# Altium footprint library urover.PCBLIB: 175 footprints (part 11 of 11)
Each footprint in its own frame and in the unit in brackets; x right, y up, seen from the top. Pads: shape width x height; smd on the part's side, far side on the other; paste and mask are expansions set on the pad; w line width, h text height; cw(c..) or ccw(c..) is an arc to the next point about the centre after c.
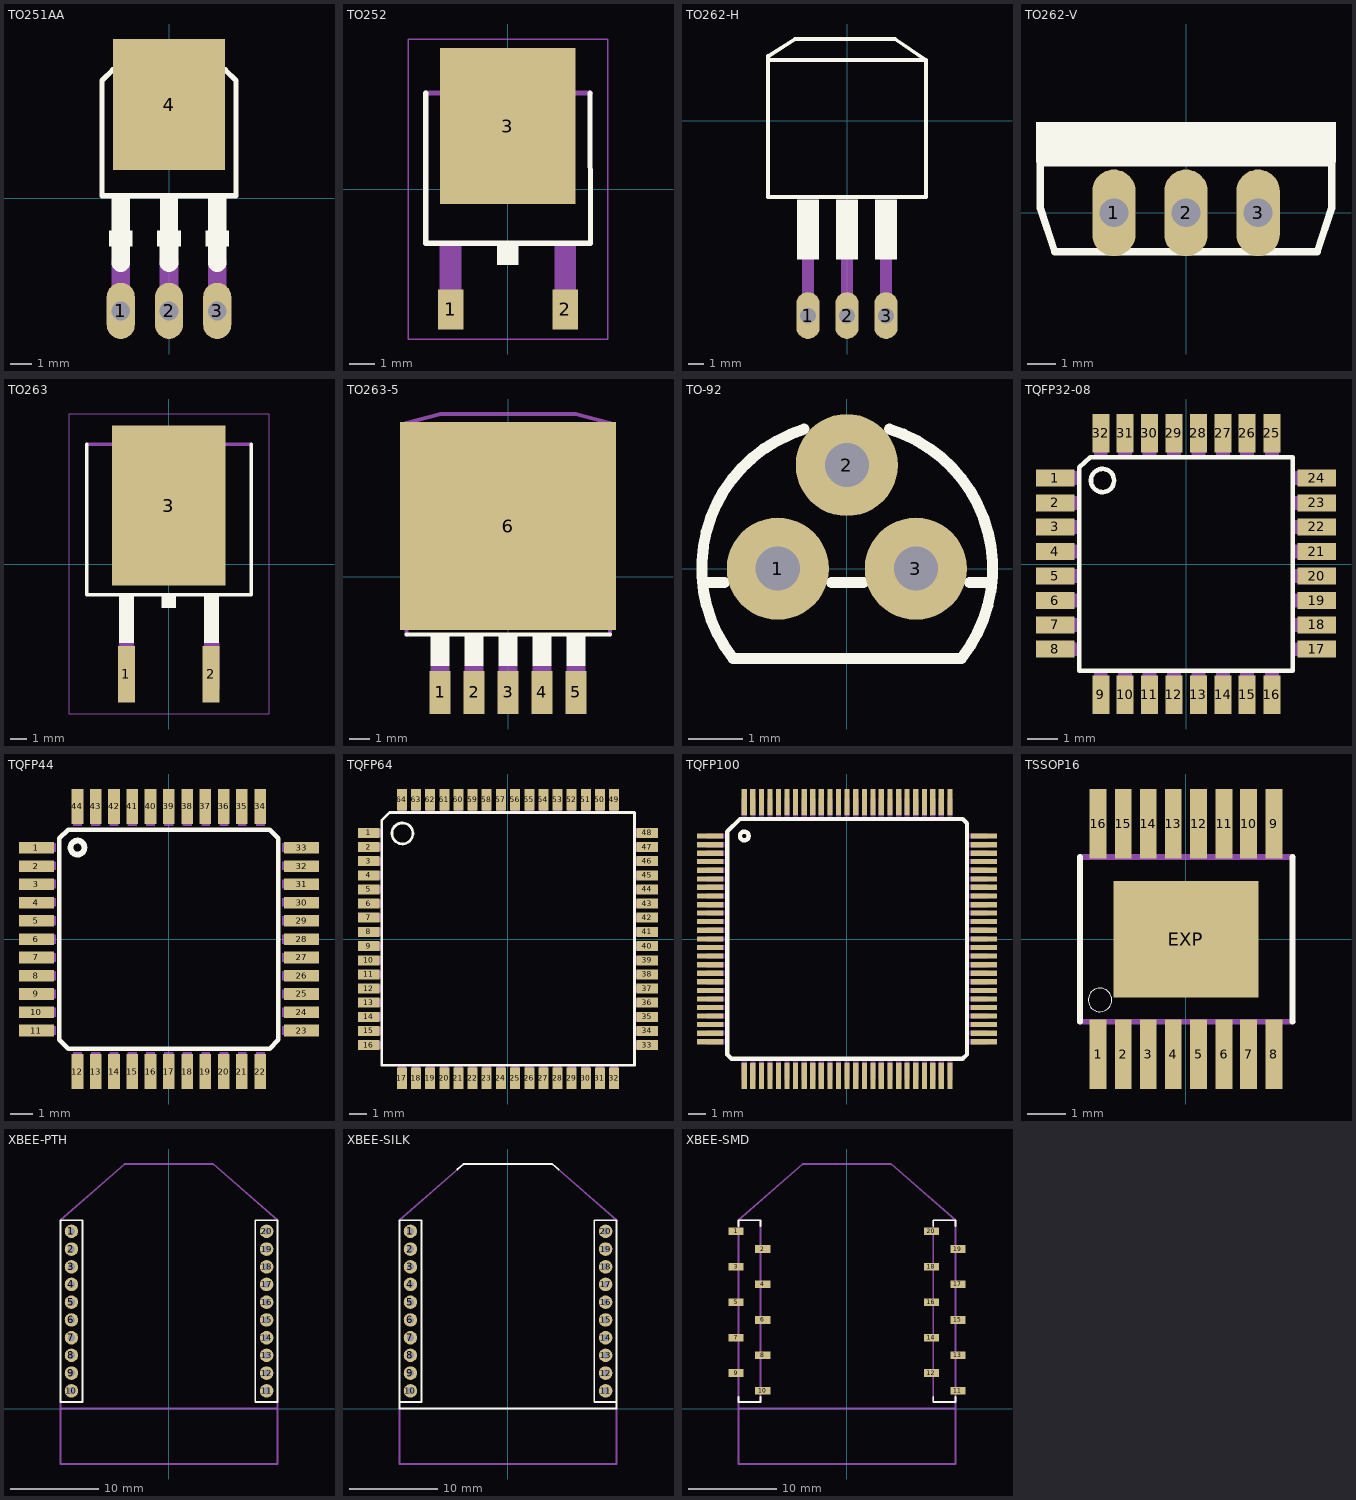
[diagram p10: the footprints below, top view; thin cyan lines are the x and y axes]

## TO251AA [mil]
pads (4):
  oval 52.5x105 hole 35: 1(-90,-210) 2(0,-210) 3(90,-210)
  rect 210x245 smd: 4(0,175)
Top Overlay:
  rectangle: -22,-90 22,-60
  rectangle: -17,-60 17,0
  rectangle: -112,-90 -68,-60
  rectangle: 68,-90 112,-60
  rectangle: -107,-60 -73,0
  rectangle: 73,-60 107,0
  lines w10: -100,240 100,240 ; -100,240 -105,240 -125,220 -125,5 125,5 125,220 105,240 100,240 ; -100,240 -100,270 -65,290 65,290 100,270 100,240
  lines w35: -90,-120 -90,-90 ; 0,-120 0,-90 ; 90,-120 90,-90
Mechanical 16:
  lines w35: -90,-210 -90,-120 ; 0,-210 0,-120 ; 90,-210 90,-120

## TO252 [mil]
pads (3):
  rect 40x63 smd: 1(-89.76,-188.98) 2(90,-188.98)
  rect 213x245 smd: 3(0,99)
Top Overlay:
  rectangle: -17,-119 17,-89
  lines w8: -129,151 -129.02,-85 130,-85 129,151
Mechanical 16:
  rectangle: -107,-203 -73,-89
  rectangle: 73,-203 107,-89
  region: 0,0 10,0 10,10 0,10
  lines w8: -129.02,151 130,151 ; -101,155 -101,183 -83,201 83,201 101,183 101,155 -101,155
Mechanical 27:
  lines w2: -156.42,-235.55 157,-235.55 157,236 -156.42,236 -156.42,-235.55

## TO262-H [mil]
pads (3):
  oval 60x120 hole 40: 1(-100,-500) 2(0,-500) 3(100,-500)
Top Overlay:
  rectangle: -128,-356 -72,-300
  rectangle: -128,-300 -72,-202
  rectangle: 72,-300 128,-202
  rectangle: -28,-300 28,-202
  rectangle: -28,-356 28,-300
  rectangle: 72,-356 128,-300
  lines w10: -202,155 -202,165 -133,209 123,209 202,155 ; -202,155 -202,-196 202,-196 202,155 ; -202,155 202,155
Mechanical 16:
  rectangle: -115,-510 -85,-355
  rectangle: -15,-510 15,-355
  rectangle: 85,-510 115,-355

## TO262-V [mil]
pads (3):
  oval 60x120 hole 40: 1(-100,0) 2(0,0) 3(100,0)
Top Overlay:
  rectangle: -208,70 208,126
  lines w10: -202,6 -202,69 202,69 202,6 182,-54 -182,-54 -202,6

## TO263 [mil]
pads (3):
  rect 40x134 smd: 1(-100,-259.84) 2(100,-259.84)
  rect 268x378 smd: 3(0,138)
Top Overlay:
  rectangle: -17,-104.04 17,-74.04
  rectangle: -117.72,-186.61 -82.28,-76.38
  rectangle: 83,-186.61 118,-76.38
  lines w8: -193.58,283 -193.58,-72.4 194,-72.4 194,283
Mechanical 16:
  rectangle: -118.11,-295.28 -82.68,-185.04
  rectangle: 83,-295.28 119,-185.04
  region: 0,0 10,0 10,10 0,10
  lines w8: -193.58,283 194,283 ; -100.98,287 -100.98,303 -82.99,321 83,321 101,303 101,287 -100.98,287
Mechanical 27:
  lines w2: -235.16,-353.66 236,-353.66 236,354 -235.16,354 -235.16,-353.66

## TO263-5 [mil]
pads (6):
  rect 42x85 smd: 1(-134,-228) 2(-67,-228) 3(0,-228) 4(67,-228) 5(134,-228)
  rect 426x410 smd: 6(0,100)
Top Overlay:
  rectangle: -153,-176 -115,-110
  rectangle: -86,-176 -48,-110
  rectangle: -19,-176 19,-110
  rectangle: 48,-176 86,-110
  rectangle: 115,-176 153,-110
  lines w8: -200.55,-113.39 201,-113.39
Mechanical 16:
  rectangle: -153,-260 -115,-175
  rectangle: -86,-260 -48,-175
  rectangle: -19,-260 19,-175
  rectangle: 48,-260 86,-175
  rectangle: 115,-260 153,-175
  region: 0,0 10,0 10,10 0,10
  lines w8: -200.55,-113.39 -200.55,283 201,283 201,-113.39 ; -200.98,287 -200.98,303 -132.99,321 133,321 201,303 201,287 -200.98,287

## TO-92 [mil]
pads (3):
  round 74 hole 32: 1(-50,0) 2(0,75) 3(50,0)
Top Overlay:
  lines w8: -104.52,-10 -88.73,-10 ; -30.96,101 ccw(c0.23,0.33) -82.46,-65 83,-65 ccw(c0.06,0.16) 31,101 ; -11.27,-10 12,-10 ; 89,-10 105,-10

## TQFP32-08 [mil]
pads (32):
  rect 50x22 smd: 1(-169,111) 2(-169,79) 3(-169,48) 4(-169,16) 5(-169,-15.75) 6(-169,-47.24) 7(-169,-78.74) 8(-169,-110.24) 17(169,-110.24) 18(169,-78.74) 19(169,-47.24) 20(169,-15.75) 21(169,16) 22(169,48) 23(169,79) 24(169,111)
  rect 22x50 smd: 9(-110.24,-169) 10(-78.74,-169) 11(-47.24,-169) 12(-15.75,-169) 13(16,-169) 14(48,-169) 15(79,-169) 16(111,-169) 25(111,169) 26(79,169) 27(48,169) 28(16,169) 29(-15.75,169) 30(-47.24,169) 31(-78.74,169) 32(-110.24,169)
Top Overlay:
  circle w6: c-108,108 r15
  lines w6: -137.99,-137.99 138,-137.99 138,138 -124.02,138 -137.99,125 -137.99,-137.99
Mechanical 16:
  rectangle: -179,102 -140,120
  rectangle: -179,70 -140,88
  rectangle: -179,39 -140,57
  rectangle: -179,7 -140,25
  rectangle: -179,-24.75 -140,-6.75
  rectangle: -179,-56.24 -140,-38.24
  rectangle: -179,-87.74 -140,-69.74
  rectangle: -179,-119.24 -140,-101.24
  rectangle: -119.24,-179 -101.24,-140
  rectangle: -87.74,-179 -69.74,-140
  rectangle: -56.24,-179 -38.24,-140
  rectangle: -24.75,-179 -6.75,-140
  rectangle: 7,-179 25,-140
  rectangle: 39,-179 57,-140
  rectangle: 70,-179 88,-140
  rectangle: 102,-179 120,-140
  rectangle: 140,-119.24 179,-101.24
  rectangle: 140,-87.74 179,-69.74
  rectangle: 140,-56.24 179,-38.24
  rectangle: 140,-24.75 179,-6.75
  rectangle: 140,7 179,25
  rectangle: 140,39 179,57
  rectangle: 140,70 179,88
  rectangle: 140,102 179,120
  rectangle: 102,140 120,179
  rectangle: 70,140 88,179
  rectangle: 39,140 57,179
  rectangle: 7,140 25,179
  rectangle: -24.75,140 -6.75,179
  rectangle: -56.24,140 -38.24,179
  rectangle: -87.74,140 -69.74,179
  rectangle: -119.24,140 -101.24,179

## TQFP44 [mil]
pads (44):
  rect 60x20 smd: 1(-228.35,158) 2(-228.35,126) 3(-228.35,95) 4(-228.35,63) 5(-228.35,32) 6(-228.35,0) 7(-228.35,-31.5) 8(-228.35,-62.99) 9(-228.35,-94.49) 10(-228.35,-125.98) 11(-228.35,-157.48) 23(229,-157.48) 24(229,-125.98) 25(229,-94.49) 26(229,-62.99) 27(229,-31.5) 28(229,0) 29(229,32) 30(229,63) 31(229,95) 32(229,126) 33(229,158)
  rect 20x60 smd: 12(-157.48,-228.35) 13(-125.98,-228.35) 14(-94.49,-228.35) 15(-62.99,-228.35) 16(-31.5,-228.35) 17(0,-228.35) 18(32,-228.35) 19(63,-228.35) 20(95,-228.35) 21(126,-228.35) 22(158,-228.35) 34(158,229) 35(126,229) 36(95,229) 37(63,229) 38(32,229) 39(0,229) 40(-31.5,229) 41(-62.99,229) 42(-94.49,229) 43(-125.98,229) 44(-157.48,229)
Top Overlay:
  circle w10: c-157.48,158 r12
  lines w8: -188.98,-173.23 -173.23,-188.98 174,-188.98 189,-173.23 189,174 174,189 -173.23,189 -188.98,174 -188.98,-173.23
Mechanical 16:
  rectangle: -240.16,150 -194.88,166
  rectangle: -240.16,119 -194.88,134
  rectangle: -240.16,87 -194.88,103
  rectangle: -240.16,56 -194.88,71
  rectangle: -240.16,24 -194.88,40
  rectangle: -240.16,-7.87 -194.88,8
  rectangle: -240.16,-39.37 -194.88,-23.62
  rectangle: -240.16,-70.87 -194.88,-55.12
  rectangle: -240.16,-102.36 -194.88,-86.61
  rectangle: -240.16,-133.86 -194.88,-118.11
  rectangle: -240.16,-165.35 -194.88,-149.61
  rectangle: -165.35,-240.16 -149.61,-194.88
  rectangle: -133.86,-240.16 -118.11,-194.88
  rectangle: -102.36,-240.16 -86.61,-194.88
  rectangle: -70.87,-240.16 -55.12,-194.88
  rectangle: -39.37,-240.16 -23.62,-194.88
  rectangle: -7.87,-240.16 8,-194.88
  rectangle: 24,-240.16 40,-194.88
  rectangle: 56,-240.16 71,-194.88
  rectangle: 87,-240.16 103,-194.88
  rectangle: 119,-240.16 134,-194.88
  rectangle: 150,-240.16 166,-194.88
  rectangle: 195,-165.35 241,-149.61
  rectangle: 195,-133.86 241,-118.11
  rectangle: 195,-102.36 241,-86.61
  rectangle: 195,-70.87 241,-55.12
  rectangle: 195,-39.37 241,-23.62
  rectangle: 195,-7.87 241,8
  rectangle: 195,24 241,40
  rectangle: 195,56 241,71
  rectangle: 195,87 241,103
  rectangle: 195,119 241,134
  rectangle: 195,150 241,166
  rectangle: 150,195 166,241
  rectangle: 119,195 134,241
  rectangle: 87,195 103,241
  rectangle: 56,195 71,241
  rectangle: 24,195 40,241
  rectangle: -7.87,195 8,241
  rectangle: -39.37,195 -23.62,241
  rectangle: -70.87,195 -55.12,241
  rectangle: -102.36,195 -86.61,241
  rectangle: -133.86,195 -118.11,241
  rectangle: -165.35,195 -149.61,241

## TQFP64 [mil]
pads (64):
  rect 47x22 smd: 1(-305.5,233) 2(-305.5,202) 3(-305.5,171) 4(-305.5,140) 5(-305.5,109) 6(-305.5,78) 7(-305.5,47) 8(-305.5,16) 9(-305.5,-15.5) 10(-305.5,-46.5) 11(-305.5,-77.5) 12(-305.5,-108.5) 13(-305.5,-139.5) 14(-305.5,-170.5) 15(-305.5,-201.5) 16(-305.5,-232.5) 33(306,-232.5) 34(306,-201.5) 35(306,-170.5) 36(306,-139.5) 37(306,-108.5) 38(306,-77.5) 39(306,-46.5) 40(306,-15.5) 41(306,16) 42(306,47) 43(306,78) 44(306,109) 45(306,140) 46(306,171) 47(306,202) 48(306,233)
  rect 22x47 smd: 17(-232.5,-305.5) 18(-201.5,-305.5) 19(-170.5,-305.5) 20(-139.5,-305.5) 21(-108.5,-305.5) 22(-77.5,-305.5) 23(-46.5,-305.5) 24(-15.5,-305.5) 25(16,-305.5) 26(47,-305.5) 27(78,-305.5) 28(109,-305.5) 29(140,-305.5) 30(171,-305.5) 31(202,-305.5) 32(233,-305.5) 49(233,306) 50(202,306) 51(171,306) 52(140,306) 53(109,306) 54(78,306) 55(47,306) 56(16,306) 57(-15.5,306) 58(-46.5,306) 59(-77.5,306) 60(-108.5,306) 61(-139.5,306) 62(-170.5,306) 63(-201.5,306) 64(-232.5,306)
Top Overlay:
  circle w6: c-231.5,232 r23
  lines w6: -277.01,-277.01 278,-277.01 278,278 -260,278 -277.01,260 -277.01,-277.01
Mechanical 16:
  rectangle: 279,7 322,25
  rectangle: 279,38 322,56
  rectangle: 279,69 322,87
  rectangle: 279,100 322,118
  rectangle: 279,131 322,149
  rectangle: 279,162 322,180
  rectangle: 279,193 322,211
  rectangle: 279,224 322,242
  rectangle: 279,-24.5 322,-6.5
  rectangle: 279,-55.5 322,-37.5
  rectangle: 279,-86.5 322,-68.5
  rectangle: 279,-117.5 322,-99.5
  rectangle: 279,-148.5 322,-130.5
  rectangle: 279,-179.5 322,-161.5
  rectangle: 279,-210.5 322,-192.5
  rectangle: 279,-241.5 322,-223.5
  rectangle: 7,-322 25,-279
  rectangle: 38,-322 56,-279
  rectangle: 69,-322 87,-279
  rectangle: 100,-322 118,-279
  rectangle: 131,-322 149,-279
  rectangle: 162,-322 180,-279
  rectangle: 193,-322 211,-279
  rectangle: 224,-322 242,-279
  rectangle: -24.5,-322 -6.5,-279
  rectangle: -55.5,-322 -37.5,-279
  rectangle: -86.5,-322 -68.5,-279
  rectangle: -117.5,-322 -99.5,-279
  rectangle: -148.5,-322 -130.5,-279
  rectangle: -179.5,-322 -161.5,-279
  rectangle: -210.5,-322 -192.5,-279
  rectangle: -241.5,-322 -223.5,-279
  rectangle: -322,-24.5 -279,-6.5
  rectangle: -322,-55.5 -279,-37.5
  rectangle: -322,-86.5 -279,-68.5
  rectangle: -322,-117.5 -279,-99.5
  rectangle: -322,-148.5 -279,-130.5
  rectangle: -322,-179.5 -279,-161.5
  rectangle: -322,-210.5 -279,-192.5
  rectangle: -322,-241.5 -279,-223.5
  rectangle: -322,7 -279,25
  rectangle: -322,38 -279,56
  rectangle: -322,69 -279,87
  rectangle: -322,100 -279,118
  rectangle: -322,131 -279,149
  rectangle: -322,162 -279,180
  rectangle: -322,193 -279,211
  rectangle: -322,224 -279,242
  rectangle: -24.5,279 -6.5,322
  rectangle: -55.5,279 -37.5,322
  rectangle: -86.5,279 -68.5,322
  rectangle: -117.5,279 -99.5,322
  rectangle: -148.5,279 -130.5,322
  rectangle: -179.5,279 -161.5,322
  rectangle: -210.5,279 -192.5,322
  rectangle: -241.5,279 -223.5,322
  rectangle: 7,279 25,322
  rectangle: 38,279 56,322
  rectangle: 69,279 87,322
  rectangle: 100,279 118,322
  rectangle: 131,279 149,322
  rectangle: 162,279 180,322
  rectangle: 193,279 211,322
  rectangle: 224,279 242,322

## TQFP100 [mil]
pads (100):
  rect 60x12 smd: 1(-314.96,237) 2(-314.96,217) 3(-314.96,197) 4(-314.96,178) 5(-314.96,158) 6(-314.96,138) 7(-314.96,119) 8(-314.96,99) 9(-314.96,79) 10(-314.96,60) 11(-314.96,40) 12(-314.96,20) 13(-314.96,0) 14(-314.96,-19.68) 15(-314.96,-39.37) 16(-314.96,-59.06) 17(-314.96,-78.74) 18(-314.96,-98.43) 19(-314.96,-118.11) 20(-314.96,-137.8) 21(-314.96,-157.48) 22(-314.96,-177.17) 23(-314.96,-196.85) 24(-314.96,-216.54) 25(-314.96,-236.22) 51(315,-236.22) 52(315,-216.54) 53(315,-196.85) 54(315,-177.17) 55(315,-157.48) 56(315,-137.8) 57(315,-118.11) 58(315,-98.43) 59(315,-78.74) 60(315,-59.06) 61(315,-39.37) 62(315,-19.68) 63(315,0) 64(315,20) 65(315,40) 66(315,60) 67(315,79) 68(315,99) 69(315,119) 70(315,138) 71(315,158) 72(315,178) 73(315,197) 74(315,217) 75(315,237)
  rect 12x60 smd: 26(-236.22,-314.96) 27(-216.54,-314.96) 28(-196.85,-314.96) 29(-177.17,-314.96) 30(-157.48,-314.96) 31(-137.8,-314.96) 32(-118.11,-314.96) 33(-98.43,-314.96) 34(-78.74,-314.96) 35(-59.06,-314.96) 36(-39.37,-314.96) 37(-19.68,-314.96) 38(0,-314.96) 39(20,-314.96) 40(40,-314.96) 41(60,-314.96) 42(79,-314.96) 43(99,-314.96) 44(119,-314.96) 45(138,-314.96) 46(158,-314.96) 47(178,-314.96) 48(197,-314.96) 49(217,-314.96) 50(237,-314.96) 76(237,315) 77(217,315) 78(197,315) 79(178,315) 80(158,315) 81(138,315) 82(119,315) 83(99,315) 84(79,315) 85(60,315) 86(40,315) 87(20,315) 88(0,315) 89(-19.68,315) 90(-39.37,315) 91(-59.06,315) 92(-78.74,315) 93(-98.43,315) 94(-118.11,315) 95(-137.8,315) 96(-157.48,315) 97(-177.17,315) 98(-196.85,315) 99(-216.54,315) 100(-236.22,315)
Top Overlay:
  circle w10: c-236.22,237 r10
  lines w10: -275.59,-265.75 -265.75,-275.59 266,-275.59 276,-265.75 276,266 266,276 -246.06,276 -275.59,247 -275.59,-265.75
Mechanical 16:
  rectangle: -322.83,231 -281.5,243
  rectangle: -322.83,211 -281.5,223
  rectangle: -322.83,191 -281.5,203
  rectangle: -322.83,172 -281.5,184
  rectangle: -322.83,152 -281.5,164
  rectangle: -322.83,132 -281.5,144
  rectangle: -322.83,113 -281.5,125
  rectangle: -322.83,93 -281.5,105
  rectangle: -322.83,73 -281.5,85
  rectangle: -322.83,54 -281.5,65
  rectangle: -322.83,34 -281.5,46
  rectangle: -322.83,14 -281.5,26
  rectangle: -322.83,-5.91 -281.5,6
  rectangle: -322.83,-25.59 -281.5,-13.78
  rectangle: -322.83,-45.28 -281.5,-33.46
  rectangle: -322.83,-64.96 -281.5,-53.15
  rectangle: -322.83,-84.65 -281.5,-72.83
  rectangle: -322.83,-104.33 -281.5,-92.52
  rectangle: -322.83,-124.02 -281.5,-112.2
  rectangle: -322.83,-143.7 -281.5,-131.89
  rectangle: -322.83,-163.39 -281.5,-151.57
  rectangle: -322.83,-183.07 -281.5,-171.26
  rectangle: -322.83,-202.76 -281.5,-190.94
  rectangle: -322.83,-222.44 -281.5,-210.63
  rectangle: -322.83,-242.13 -281.5,-230.31
  rectangle: -242.13,-322.83 -230.31,-281.5
  rectangle: -222.44,-322.83 -210.63,-281.5
  rectangle: -202.76,-322.83 -190.94,-281.5
  rectangle: -183.07,-322.83 -171.26,-281.5
  rectangle: -163.39,-322.83 -151.57,-281.5
  rectangle: -143.7,-322.83 -131.89,-281.5
  rectangle: -124.02,-322.83 -112.2,-281.5
  rectangle: -104.33,-322.83 -92.52,-281.5
  rectangle: -84.65,-322.83 -72.83,-281.5
  rectangle: -64.96,-322.83 -53.15,-281.5
  rectangle: -45.28,-322.83 -33.46,-281.5
  rectangle: -25.59,-322.83 -13.78,-281.5
  rectangle: -5.91,-322.83 6,-281.5
  rectangle: 14,-322.83 26,-281.5
  rectangle: 34,-322.83 46,-281.5
  rectangle: 54,-322.83 65,-281.5
  rectangle: 73,-322.83 85,-281.5
  rectangle: 93,-322.83 105,-281.5
  rectangle: 113,-322.83 125,-281.5
  rectangle: 132,-322.83 144,-281.5
  rectangle: 152,-322.83 164,-281.5
  rectangle: 172,-322.83 184,-281.5
  rectangle: 191,-322.83 203,-281.5
  rectangle: 211,-322.83 223,-281.5
  rectangle: 231,-322.83 243,-281.5
  rectangle: 282,-242.13 323,-230.31
  rectangle: 282,-222.44 323,-210.63
  rectangle: 282,-202.76 323,-190.94
  rectangle: 282,-183.07 323,-171.26
  rectangle: 282,-163.39 323,-151.57
  rectangle: 282,-143.7 323,-131.89
  rectangle: 282,-124.02 323,-112.2
  rectangle: 282,-104.33 323,-92.52
  rectangle: 282,-84.65 323,-72.83
  rectangle: 282,-64.96 323,-53.15
  rectangle: 282,-45.28 323,-33.46
  rectangle: 282,-25.59 323,-13.78
  rectangle: 282,-5.91 323,6
  rectangle: 282,14 323,26
  rectangle: 282,34 323,46
  rectangle: 282,54 323,65
  rectangle: 282,73 323,85
  rectangle: 282,93 323,105
  rectangle: 282,113 323,125
  rectangle: 282,132 323,144
  rectangle: 282,152 323,164
  rectangle: 282,172 323,184
  rectangle: 282,191 323,203
  rectangle: 282,211 323,223
  rectangle: 282,231 323,243
  rectangle: 231,282 243,323
  rectangle: 211,282 223,323
  rectangle: 191,282 203,323
  rectangle: 172,282 184,323
  rectangle: 152,282 164,323
  rectangle: 132,282 144,323
  rectangle: 113,282 125,323
  rectangle: 93,282 105,323
  rectangle: 73,282 85,323
  rectangle: 54,282 65,323
  rectangle: 34,282 46,323
  rectangle: 14,282 26,323
  rectangle: -5.91,282 6,323
  rectangle: -25.59,282 -13.78,323
  rectangle: -45.28,282 -33.46,323
  rectangle: -64.96,282 -53.15,323
  rectangle: -84.65,282 -72.83,323
  rectangle: -104.33,282 -92.52,323
  rectangle: -124.02,282 -112.2,323
  rectangle: -143.7,282 -131.89,323
  rectangle: -163.39,282 -151.57,323
  rectangle: -183.07,282 -171.26,323
  rectangle: -202.76,282 -190.94,323
  rectangle: -222.44,282 -210.63,323
  rectangle: -242.13,282 -230.31,323

## TSSOP16 [mil]
pads (17):
  rect 17x71 smd: 1(-89.57,-117.13) 2(-63.98,-117.13) 3(-38.39,-117.13) 4(-12.8,-117.13) 5(13,-117.13) 6(39,-117.13) 7(64,-117.13) 8(90,-117.13) 9(90,118) 10(64,118) 11(39,118) 12(13,118) 13(-12.8,118) 14(-38.39,118) 15(-63.98,118) 16(-89.57,118)
  rect 148x119 smd: EXP(0,0)
Top Overlay:
  circle w0: c-87.62,-61.78 r12
  lines w6: -107.86,-83.97 -107.86,84 ; 109,-83.97 109,84
Mechanical 16:
  rectangle: -95.47,-125.98 -83.66,-82
  rectangle: -69.88,-125.98 -58.07,-82
  rectangle: -44.29,-125.98 -32.48,-82
  rectangle: -18.7,-125.98 -6.89,-82
  rectangle: 7,-125.98 19,-82
  rectangle: 33,-125.98 45,-82
  rectangle: 59,-125.98 70,-82
  region: 70,126 59,126 59,82 70,82
  region: 45,126 33,126 33,82 45,82
  region: 19,126 7,126 7,82 19,82
  region: -6.89,126 -18.7,126 -18.7,82 -6.89,82
  region: -32.48,126 -44.29,126 -44.29,82 -32.48,82
  region: -58.07,126 -69.88,126 -69.88,82 -58.07,82
  region: -83.66,126 -95.47,126 -95.47,82 -83.66,82
  region: 96,126 84,126 84,82 96,82
  rectangle: 84,-125.98 96,-82
  lines w6: -107.86,-83.97 109,-83.97 ; -107.86,84 109,84

## XBEE-PTH [mil]
pads (20):
  round 60 hole 32: 1(-433.07,788) 2(-433.07,709) 3(-433.07,630) 4(-433.07,552) 5(-433.07,473) 6(-433.07,394) 7(-433.07,315) 8(-433.07,237) 9(-433.07,158) 10(-433.07,79) 11(434,79) 12(434,158) 13(434,237) 14(434,315) 15(434,394) 16(434,473) 17(434,552) 18(434,630) 19(434,709) 20(434,788)
Top Overlay:
  lines w8: -482.28,30 -482.28,837 -383.86,837 -383.86,30 -482.28,30 ; 384,30 483,30 483,837 384,837 384,30
Mechanical 16:
  lines w8: -482.28,30 -482.28,0 ; -482.28,837 -196.85,1087 197,1087 483,837 ; 483,30 483,0 ; -482.28,0 483,0 ; -482.28,0 -482.28,-246.06 483,-246.06 483,0

## XBEE-SILK [mil]
pads (20):
  round 60 hole 32: 1(-433.07,788) 2(-433.07,709) 3(-433.07,630) 4(-433.07,552) 5(-433.07,473) 6(-433.07,394) 7(-433.07,315) 8(-433.07,237) 9(-433.07,158) 10(-433.07,79) 11(434,79) 12(434,158) 13(434,237) 14(434,315) 15(434,394) 16(434,473) 17(434,552) 18(434,630) 19(434,709) 20(434,788)
Top Overlay:
  lines w8: -224.41,1063 -196.85,1087 197,1087 225,1063 ; -482.28,30 -482.28,837 -383.86,837 -383.86,30 -482.28,30 ; -482.28,30 -482.28,0 483,0 483,30 ; 483,30 483,837 384,837 384,30 483,30
Mechanical 16:
  lines w8: -482.28,0 -482.28,-246.06 483,-246.06 483,0 ; -482.28,837 -196.85,1087 197,1087 483,837

## XBEE-SMD [mil]
pads (20):
  rect 67x34 smd: 1(-492.13,788) 2(-374.02,709) 3(-492.13,630) 4(-374.02,552) 5(-492.13,473) 6(-374.02,394) 7(-492.13,315) 8(-374.02,237) 9(-492.13,158) 10(-374.02,79) 11(493,79) 12(375,158) 13(493,237) 14(375,315) 15(493,394) 16(375,473) 17(493,552) 18(375,630) 19(493,709) 20(375,788)
Top Overlay:
  lines w8: -482.28,52 -482.28,30 -383.86,30 -383.86,52 ; -482.28,812 -482.28,837 -383.86,837 -383.86,812 ; 384,52 384,30 483,30 483,52 ; 384,812 384,837 483,837 483,812
Mechanical 16:
  lines w8: -482.28,0 -482.28,30 ; -482.28,0 483,0 ; -482.28,0 -482.28,-246.06 483,-246.06 483,0 ; -482.28,30 -482.28,837 ; -482.28,30 -383.86,30 -383.86,837 -482.28,837 ; -482.28,837 -196.85,1087 197,1087 483,837 ; 483,0 483,30 ; 483,30 483,837 ; 483,30 384,30 384,837 483,837